# Altium integrated library 8 MHz Oscillator.IntLib: 1 symbol
Pins are listed as number, name and electrical type; pins without a type are passive.

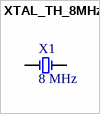
[diagram p0: symbol XTAL_TH_8MHz]

## XTAL_TH_8MHz
designator X1, comment 8 MHz
8MHz ±30ppm 20pF Crystal; Frequency: 8MHz; Supplier 1: Digi-Key; Supplier Part Number 1: 631-1100-ND
footprint CRYSTAL_8MHZ (631-1100-ND)
pins: 1, 2